# Altium schematic symbol library ALH82A750CB600.SchLib: 1 symbol
Pins are listed as number, name and electrical type; pins without a type are passive.

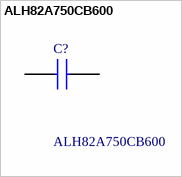
[diagram p0: symbol ALH82A750CB600]

## ALH82A750CB600
designator C?
75 F 600 V Aluminum Electrolytic Capacitors Radial, Can - Snap-In 1.861Ohm @ 100Hz 3000 Hrs @ 105C; Manufacturer_Name: KEMET; Geometry.Height: 32mm; Mouser Part Number: 80-ALH82A750CB600; Mouser Price/Stock: https://www.mouser.co.uk/ProductDetail/KEMET/ALH82A750CB600?qs=IPgv5n7u5QYD2qLIrnuv%2FQ%3D%3D; Manufacturer_Part_Number: ALH82A750CB600; Datasheet Link: https://search.kemet.com/component-documentation/download/specsheet/ALH82A750CB600
footprint ALH82A750CB600
pins: 1, 2